# Altium schematic symbol library 100uF 450V cap.SchLib: 1 symbol
Pins are listed as number, name and electrical type; pins without a type are passive.

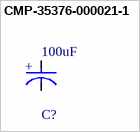
[diagram p0: symbol CMP-35376-000021-1]

## CMP-35376-000021-1
designator C?, comment 100uF
CAP ALUM 100UF 20% 450V RADIAL; Polarity: Polar; Life (Hours): 12000Hour; Ripple Current: 750mA; Case/Package: Radial; Capacitance: 100uF; Lead Pitch: 0.295inch; Packaging: Bulk; Mount: Through Hole; Tolerance: 20%; Height - Seated (Max): 1.26inch; Max Operating Temperature: 105°C; Min Operating Temperature: -40°C; Voltage Rating: 450V
footprint FP-BXW18X30-MFG
pins: 1 C, 2 A
text: +